# Altium footprint library Air780E.PcbLib: 40 footprints (part 1 of 3)
Each footprint in its own frame and in the unit in brackets; x right, y up, seen from the top. Pads: shape width x height; smd on the part's side, far side on the other; paste and mask are expansions set on the pad; w line width, h text height; cw(c..) or ccw(c..) is an arc to the next point about the centre after c.
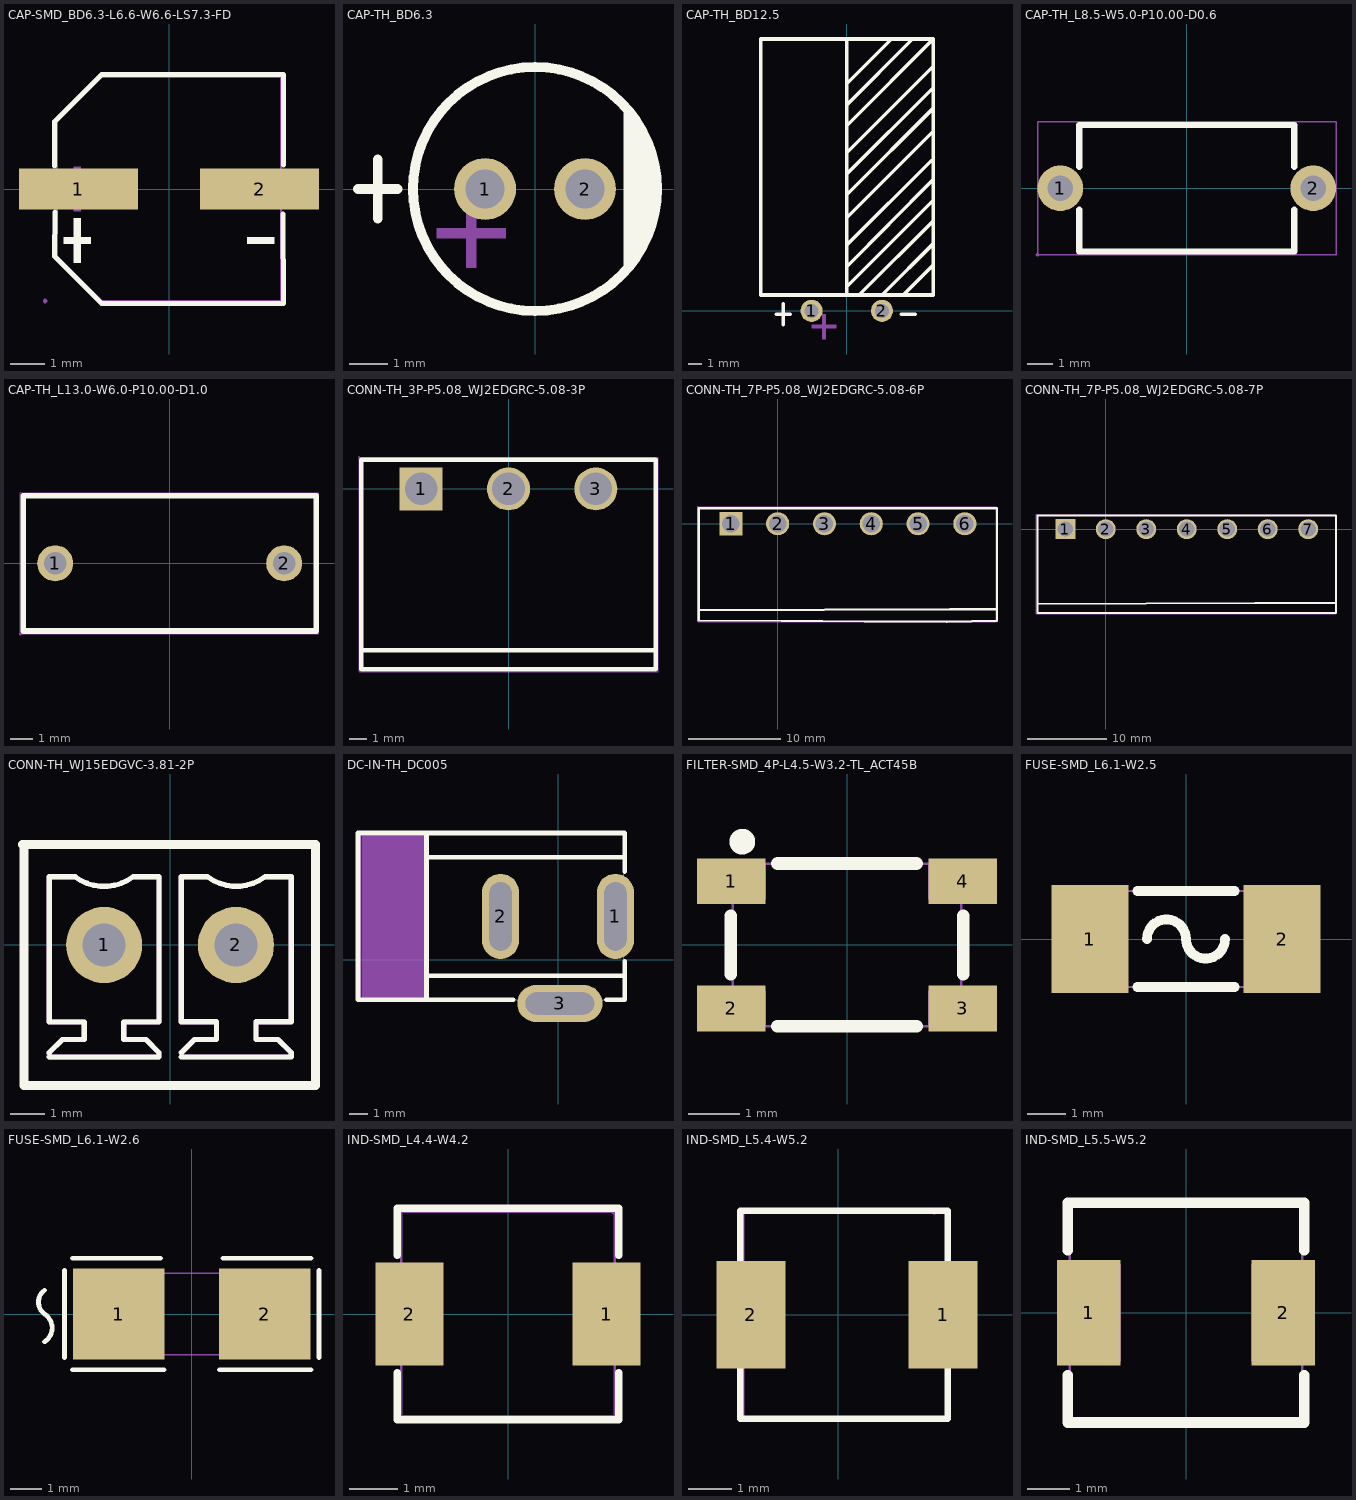
[diagram p0: the footprints below, top view; thin cyan lines are the x and y axes]

## CAP-SMD_BD6.3-L6.6-W6.6-LS7.3-FD [mm]
pads (2):
  rect 3.5x1.2 smd paste+0 mask+0.051: 1(-2.67,0) 2(2.67,0)
Top Overlay:
  region: 3.102,-1.419 3.102,-1.617 2.31,-1.617 2.31,-1.419
  region: -3.102,-1.419 -3.102,-1.617 -2.31,-1.617 -2.31,-1.419
  region: -2.805,-0.858 -2.805,-2.178 -2.607,-2.178 -2.607,-0.858
  lines w0.152: -3.376,0.686 -3.376,1.98 -1.98,3.376 3.376,3.376 3.369,0.708 ; -3.362,-0.686 -3.376,-1.981 -1.981,-3.376 3.376,-3.376 3.356,-0.739
Mechanical 6:
  region: 3.102,0.099 3.102,-0.099 2.31,-0.099 2.31,0.099
  region: -3.102,0.099 -3.102,-0.099 -2.31,-0.099 -2.31,0.099
  region: -2.805,0.66 -2.805,-0.66 -2.607,-0.66 -2.607,0.66
Mechanical 15:
  region: -3.652,0.35 -1.002,0.35 -1.002,-0.35 -3.652,-0.35
  region: 0.999,0.35 3.649,0.35 3.649,-0.35 0.999,-0.35
  region: -3.592,-3.3 -3.592,-3.275 -3.627,-3.24 -3.676,-3.24 -3.712,-3.275 -3.712,-3.3 -3.712,-3.325 -3.676,-3.36 -3.627,-3.36 -3.592,-3.325
  lines w0.051: -3.3,-1.98 -3.3,1.98 -1.98,3.3 3.3,3.3 3.3,-3.3 -1.98,-3.3 -3.3,-1.98

## CAP-TH_BD6.3 [mm]
pads (2):
  round 1.6 hole 1: 1(-1.29,0) 2(1.29,0)
Top Overlay:
  circle w0.254: c0,0 r3.15
  region: 2.286,2.092 2.286,-2.125 2.841,-1.571 3.175,0.508 2.723,1.656
  lines w0.254: -4.572,0 -3.556,0 ; -4.064,-0.762 -4.064,0.762
Mechanical 15:
  region: -2.54,-1.016 -0.762,-1.016 -0.762,-1.27 -2.54,-1.27
  region: -1.778,-0.762 -1.778,-2.032 -1.524,-2.032 -1.524,-0.254 -1.778,-0.254

## CAP-TH_BD12.5 [mm]
pads (2):
  round 1.6 hole 1: 1(-2.54,0) 2(2.54,0)
Top Overlay:
  lines w0.254: -5.08,-0.254 -4.064,-0.254 ; -4.572,-1.016 -4.572,0.508 ; 0,3.175 6.147,9.381 ; 0,6.731 6.157,12.888 ; 0,14.605 0,14.859 4.699,19.558 ; 0,16.383 3.175,19.558 ; 0.004,1.747 6.161,7.905 ; 0.004,9.875 6.24,16.112 ; 0.004,11.399 6.177,17.572 ; 0.014,1.143 0,1.157 0,13.462 0.093,13.462 6.25,19.619 ; 0.014,13.462 0.014,19.619 ; 0.034,4.792 6.084,10.841 ; 0.096,8.478 6.254,14.636 ; 1.016,1.27 6.223,6.477 ; 2.667,1.143 2.667,1.27 6.223,4.826 ; 3.81,1.143 4.064,1.143 6.223,3.302 ; 3.937,-0.254 4.953,-0.254 ; 6.25,19.619 -6.223,19.619 -6.223,1.143 6.25,1.143 6.25,18.188 6.25,19.619
Mechanical 15:
  region: -2.54,-1.016 -0.762,-1.016 -0.762,-1.27 -2.54,-1.27
  region: -1.778,-0.762 -1.778,-2.032 -1.524,-2.032 -1.524,-0.254 -1.778,-0.254

## CAP-TH_L8.5-W5.0-P10.00-D0.6 [mm]
pads (2):
  round 1.8 hole 1 paste-2539.97 mask+0.051: 1(-5,0) 2(5,0)
Top Overlay:
  lines w0.254: -4.25,-0.846 -4.25,-2.499 4.25,-2.499 4.25,-0.846 ; -4.25,0.846 -4.25,2.499 4.25,2.499 4.25,0.846
Mechanical 15:
  region: -4.6,0 -4.6,0.08 -4.661,0.227 -4.773,0.339 -4.92,0.4 -5.08,0.4 -5.227,0.339 -5.339,0.227 -5.4,0.08 -5.4,0 -5.4,-0.08 -5.339,-0.227 -5.227,-0.339 -5.08,-0.4 -4.92,-0.4 -4.773,-0.339 -4.661,-0.227 -4.6,-0.08
  region: 5.4,0 5.4,0.08 5.339,0.227 5.227,0.339 5.08,0.4 4.92,0.4 4.773,0.339 4.661,0.227 4.6,0.08 4.6,0 4.6,-0.08 4.661,-0.227 4.773,-0.339 4.92,-0.4 5.08,-0.4 5.227,-0.339 5.339,-0.227 5.4,-0.08
  region: -5.84,-2.626 -5.84,-2.602 -5.875,-2.566 -5.925,-2.566 -5.96,-2.602 -5.96,-2.626 -5.96,-2.651 -5.925,-2.686 -5.875,-2.686 -5.84,-2.651
  lines w0.051: -5.9,-2.626 5.9,-2.626 5.9,2.626 -5.9,2.626 -5.9,-2.626

## CAP-TH_L13.0-W6.0-P10.00-D1.0 [mm]
pads (2):
  round 1.6 hole 1 paste-2539.97 mask+0.051: 1(-5.08,0) 2(5.08,0)
Top Overlay:
  lines w0.254: -6.5,-3 6.5,-3 6.5,3 -6.5,3 -6.5,-3
Mechanical 15:
  region: -4.68,0 -4.68,0.08 -4.741,0.227 -4.853,0.339 -5,0.4 -5.16,0.4 -5.307,0.339 -5.419,0.227 -5.48,0.08 -5.48,0 -5.48,-0.08 -5.419,-0.227 -5.307,-0.339 -5.16,-0.4 -5,-0.4 -4.853,-0.339 -4.741,-0.227 -4.68,-0.08
  region: 5.48,0 5.48,0.08 5.419,0.227 5.307,0.339 5.16,0.4 5,0.4 4.853,0.339 4.741,0.227 4.68,0.08 4.68,0 4.68,-0.08 4.741,-0.227 4.853,-0.339 5,-0.4 5.16,-0.4 5.307,-0.339 5.419,-0.227 5.48,-0.08
  region: -6.567,-3.127 -6.567,-3.102 -6.602,-3.067 -6.652,-3.067 -6.687,-3.102 -6.687,-3.127 -6.687,-3.152 -6.652,-3.187 -6.602,-3.187 -6.567,-3.152
  lines w0.051: -6.627,-3.127 6.627,-3.127 6.627,3.127 -6.627,3.127 -6.627,-3.127

## CONN-TH_3P-P5.08_WJ2EDGRC-5.08-3P [mm]
pads (3):
  rect 2.5x2.5 hole 1.9 paste-2539.97 mask+0.051: 1(-5.08,0)
  round 2.5 hole 1.9 paste-2539.97 mask+0.051: 2(0,0) 3(5.08,0)
Top Overlay:
  lines w0.254: -8.57,-9.398 8.57,-9.398 ; -8.57,1.699 6.949,1.699 8.57,1.699 ; -8.57,1.7 -8.57,-10.5 8.57,-10.5 8.57,1.7
Mechanical 15:
  region: -8.637,1.827 -8.637,1.852 -8.672,1.887 -8.722,1.887 -8.757,1.852 -8.757,1.827 -8.757,1.802 -8.722,1.767 -8.672,1.767 -8.637,1.802
  region: 5.93,0 5.93,0.112 5.872,0.328 5.76,0.522 5.602,0.68 5.408,0.792 5.192,0.85 4.968,0.85 4.752,0.792 4.558,0.68 4.4,0.522 4.288,0.328 4.23,0.112 4.23,0 4.23,-0.112 4.288,-0.328 4.4,-0.522 4.558,-0.68 4.752,-0.792 4.968,-0.85 5.192,-0.85 5.408,-0.792 5.602,-0.68 5.76,-0.522 5.872,-0.328 5.93,-0.112
  region: 0.85,0 0.85,0.112 0.792,0.328 0.68,0.522 0.522,0.68 0.328,0.792 0.112,0.85 -0.112,0.85 -0.328,0.792 -0.522,0.68 -0.68,0.522 -0.792,0.328 -0.85,0.112 -0.85,0 -0.85,-0.112 -0.792,-0.328 -0.68,-0.522 -0.522,-0.68 -0.328,-0.792 -0.112,-0.85 0.112,-0.85 0.328,-0.792 0.522,-0.68 0.68,-0.522 0.792,-0.328 0.85,-0.112
  region: -4.23,0 -4.23,0.112 -4.288,0.328 -4.4,0.522 -4.558,0.68 -4.752,0.792 -4.968,0.85 -5.192,0.85 -5.408,0.792 -5.602,0.68 -5.76,0.522 -5.872,0.328 -5.93,0.112 -5.93,0 -5.93,-0.112 -5.872,-0.328 -5.76,-0.522 -5.602,-0.68 -5.408,-0.792 -5.192,-0.85 -4.968,-0.85 -4.752,-0.792 -4.558,-0.68 -4.4,-0.522 -4.288,-0.328 -4.23,-0.112
  lines w0.051: -8.697,-10.627 -8.697,1.827 8.697,1.827 8.697,-10.627 -8.697,-10.627

## CONN-TH_7P-P5.08_WJ2EDGRC-5.08-6P [mm]
pads (6):
  rect 2.5x2.5 hole 1.9 paste-2539.97 mask+0.051: 1(-5.08,0)
  round 2.5 hole 1.9 paste-2539.97 mask+0.051: 2(0,0) 3(5.08,0) 4(10.16,0) 5(15.24,0) 6(20.32,0)
Top Overlay:
  lines w0.254: -8.57,-9.398 18.73,-9.271 23.749,-9.271 ; -8.57,1.699 16.982,1.699 23.749,1.699 ; -8.57,1.7 -8.57,-10.5 18.349,-10.627 23.81,-10.54 23.81,1.699
Mechanical 15:
  drawing of 14 lines, arcs and shapes, not listed

## CONN-TH_7P-P5.08_WJ2EDGRC-5.08-7P [mm]
pads (7):
  rect 2.5x2.5 hole 1.9 paste-2539.97 mask+0.051: 1(-5.08,0)
  round 2.5 hole 1.9 paste-2539.97 mask+0.051: 2(0,0) 3(5.08,0) 4(10.16,0) 5(15.24,0) 6(20.32,0) 7(25.4,0)
Top Overlay:
  lines w0.254: -8.57,-9.398 18.73,-9.271 28.829,-9.271 ; -8.57,1.699 22.062,1.699 28.829,1.699 ; -8.57,1.7 -8.57,-10.5 18.73,-10.5 28.829,-10.5 ; 28.89,-10.5 28.89,1.699
Mechanical 15:
  drawing of 15 lines, arcs and shapes, not listed

## CONN-TH_WJ15EDGVC-3.81-2P [mm]
pads (2):
  round 2.2 hole 1.25 paste-2539.97 mask+0.051: 1(-1.905,0) 2(1.905,0)
Top Overlay:
  lines w0.152: -3.493,-3.238 -0.318,-3.238 -0.318,-3.111 -0.699,-2.73 -1.207,-2.731 -1.335,-2.731 -1.335,-2.222 -0.318,-2.222 -0.318,1.968 -1.07,1.968 ; -3.493,-3.111 -3.112,-2.73 -2.477,-2.731 -2.477,-2.603 -2.477,-2.222 -3.493,-2.222 -3.493,1.968 -2.74,1.968 ; -2.74,1.968 ccw(c-1.905,3.098) -1.07,1.968 ; 0.327,-3.235 3.502,-3.235 3.502,-3.108 3.121,-2.727 2.613,-2.728 2.484,-2.728 2.484,-2.219 3.502,-2.219 3.502,1.972 2.749,1.972 cw(c1.914,3.102) 1.079,1.972 0.327,1.972 0.327,-2.219 1.343,-2.219 1.343,-2.6 1.343,-2.728 0.708,-2.727 0.327,-3.108
  lines w0.254: -4.26,2.9 4.2,2.9 4.2,-4.06 -4.22,-4.06 -4.22,2.88
Mechanical 6:
  drawing of 10 lines, arcs and shapes, not listed
Mechanical 15:
  region: -4.19,-4.1 -4.19,-4.075 -4.225,-4.04 -4.275,-4.04 -4.31,-4.075 -4.31,-4.1 -4.31,-4.125 -4.275,-4.16 -4.225,-4.16 -4.19,-4.125
  region: -2.305,0.4 -1.505,0.4 -1.505,-0.4 -2.305,-0.4
  region: 1.505,0.4 2.305,0.4 2.305,-0.4 1.505,-0.4
  lines w0.051: -4.25,-4.1 4.25,-4.1 4.25,2.9 -4.25,2.9 -4.25,-4.1

## DC-IN-TH_DC005 [mm]
pads (3):
  oval 2x4.6 hole 1.2 slot 3.7 at 90 deg paste-2539.97 mask+0.051: 1(3.1,2.35) 2(-3.1,2.35)
  oval 4.6x2 hole 1.2 slot 3.7 at 0 deg paste-2539.97 mask+0.051: 3(0.1,-2.35)
Top Overlay:
  lines w0.254: -7.1,-2.15 -7.1,6.85 ; -7.02,-0.85 3.6,-0.85 ; -7.02,5.55 3.6,5.55 ; -2.415,-2.15 -10.8,-2.15 -10.8,6.85 3.6,6.85 3.6,4.775 ; 2.615,-2.15 3.6,-2.15 3.6,-0.074
Mechanical 6:
  region: -10.6,6.7 -7.2,6.7 -7.2,-2.1 -10.6,-2.1
Mechanical 15:
  region: -1.15,-2.55 1.35,-2.55 1.35,-2.09 -1.15,-2.09
  region: -2.9,1.1 -3.3,1.1 -3.3,3.6 -2.9,3.6
  region: -1.15,-2.15 1.35,-2.15 1.35,-2.55 -1.15,-2.55
  region: 2.9,3.6 3.3,3.6 3.3,1.1 2.9,1.1
  region: 3.61,6.85 3.61,6.875 3.575,6.91 3.525,6.91 3.49,6.875 3.49,6.85 3.49,6.825 3.525,6.79 3.575,6.79 3.61,6.825
  lines w0.051: -10.65,-2.15 -10.65,6.85 3.55,6.85 3.55,-2.15 -10.65,-2.15

## FILTER-SMD_4P-L4.5-W3.2-TL_ACT45B [mm]
pads (4):
  rect 1.35x0.9 smd paste+0 mask+0.051: 1(-2.275,1.25) 2(-2.275,-1.25) 3(2.275,-1.25) 4(2.275,1.25)
Top Overlay:
  circle w0.254: c-2.06,2.03 r0.127
  lines w0.254: -2.286,-0.569 -2.286,0.569 ; -1.369,-1.6 1.369,-1.6 ; -1.369,1.6 1.369,1.6 ; 2.286,-0.569 2.286,0.569
Mechanical 15:
  region: -2.25,0.9 -2.25,1.6 -1.6,1.6 -1.6,0.9
  region: 1.6,0.9 1.6,1.6 2.25,1.6 2.25,0.9
  region: 1.6,-1.6 1.6,-0.9 2.25,-0.9 2.25,-1.6
  region: -2.25,-1.6 -2.25,-0.9 -1.6,-0.9 -1.6,-1.6
  region: -2.19,1.6 -2.19,1.625 -2.225,1.66 -2.275,1.66 -2.31,1.625 -2.31,1.6 -2.31,1.575 -2.275,1.54 -2.225,1.54 -2.19,1.575
  lines w0.051: -2.25,-1.6 2.25,-1.6 2.25,1.6 -2.25,1.6 -2.25,-1.6

## FUSE-SMD_L6.1-W2.5 [mm]
pads (2):
  rect 2x2.8 smd paste+0 mask+0.051: 1(-2.5,0) 2(2.5,0)
Top Overlay:
  lines w0.254: -1.269,-1.25 1.269,-1.25 ; -1.269,1.25 1.269,1.25 ; -1.016,0 cw(c-0.508,0) 0,0 ccw(c0.508,0) 1.016,0
Mechanical 15:
  region: -2.993,1.256 -2.993,1.281 -3.029,1.316 -3.078,1.316 -3.113,1.281 -3.113,1.256 -3.113,1.231 -3.078,1.196 -3.029,1.196 -2.993,1.231
  region: -3.05,1.25 -1.65,1.25 -1.65,-1.25 -3.05,-1.25
  region: 1.65,1.25 3.05,1.25 3.05,-1.25 1.65,-1.25
  lines w0.051: -3.05,-1.25 -3.05,1.25 3.05,1.25 3.05,-1.25 -3.05,-1.25

## FUSE-SMD_L6.1-W2.6 [mm]
pads (2):
  rect 2.91x2.911 smd paste-100 mask+0.051: 1(-2.33,0) 2(2.33,0)
Top Overlay:
  lines w0.152: -4.699,-0.889 ccw(c-4.986,-0.445) -4.699,0 cw(c-4.429,0.381) -4.699,0.762 ; -4.064,-1.401 -4.064,1.393 ; -3.81,-1.778 -0.889,-1.778 ; -3.81,1.778 -1.002,1.778 ; 0.889,-1.778 3.81,-1.778 ; 1.002,1.778 3.81,1.778 ; 4.064,-1.397 4.064,1.397
Top Paste:
  region: -0.875,-1.355 -0.875,-0.595 -0.975,-0.495 -1.764,-0.495 -1.864,-0.395 -1.864,0.395 -1.764,0.495 -0.975,0.495 -0.875,0.595 -0.875,1.355 -0.975,1.455 -3.685,1.455 -3.785,1.355 -3.785,-1.355 -3.685,-1.455 -0.975,-1.455
  region: 0.875,-1.355 0.875,-0.595 0.975,-0.495 1.764,-0.495 1.864,-0.395 1.864,0.395 1.764,0.495 0.975,0.495 0.875,0.595 0.875,1.355 0.975,1.455 3.685,1.455 3.785,1.355 3.785,-1.355 3.685,-1.455 0.975,-1.455
Mechanical 15:
  region: 3.05,-1.347 3.05,1.347 1.6,1.347 1.6,-1.347
  region: -3.05,-1.347 -3.05,1.347 -1.6,1.347 -1.6,-1.347
  region: -2.99,-1.347 -2.99,-1.323 -3.025,-1.288 -3.075,-1.288 -3.11,-1.323 -3.11,-1.347 -3.11,-1.372 -3.075,-1.407 -3.025,-1.407 -2.99,-1.372
  lines w0.051: -3.05,-1.3 3.05,-1.3 3.05,1.3 -3.05,1.3 -3.05,-1.3

## IND-SMD_L4.4-W4.2 [mm]
pads (2):
  rect 1.4x2.12 smd paste+0 mask+0.051: 1(2.028,0) 2(-2.028,0)
Top Overlay:
  lines w0.152: -2.276,-1.212 -2.276,-2.176 2.276,-2.176 2.276,-1.212 ; -2.276,1.212 -2.276,2.176 2.276,2.176 2.276,1.212
Mechanical 15:
  region: -2.2,1 -1.4,1 -1.4,-1 -2.2,-1
  region: 1.4,1 2.2,1 2.2,-1 1.4,-1
  region: 2.26,2.1 2.26,2.125 2.225,2.16 2.175,2.16 2.14,2.125 2.14,2.1 2.14,2.075 2.175,2.04 2.225,2.04 2.26,2.075
  lines w0.051: -2.2,-2.1 2.2,-2.1 2.2,2.1 -2.2,2.1 -2.2,-2.1

## IND-SMD_L5.4-W5.2 [mm]
pads (2):
  rect 1.6x2.5 smd paste+0 mask+0.051: 1(2.428,0) 2(-2.028,0)
Top Overlay:
  lines w0.152: -2.276,-1.212 -2.276,-2.413 2.54,-2.413 2.54,-1.212 ; -2.276,1.212 -2.276,2.413 2.54,2.413 2.54,1.212
Mechanical 15:
  region: -2.2,1 -1.4,1 -1.4,-1 -2.2,-1
  region: 2.032,1 2.832,1 2.832,-1 2.032,-1
  region: 2.286,2.388 2.286,2.413 2.251,2.448 2.201,2.448 2.166,2.413 2.166,2.388 2.166,2.363 2.201,2.328 2.251,2.328 2.286,2.363
  lines w0.051: -2.2,-2.413 2.54,-2.413 2.54,2.413 -2.2,2.413 -2.2,-2.413

## IND-SMD_L5.5-W5.2 [mm]
pads (2):
  rect 1.5x2.5 smd paste+0 mask+0.051: 1(-2.3,0) 2(2.3,0)
Top Overlay:
  lines w0.254: -2.8,-1.481 -2.8,-2.6 2.8,-2.6 2.8,-1.481 ; -2.8,1.481 -2.8,2.6 2.8,2.6 2.8,1.481
Mechanical 15:
  region: -2.69,-2.6 -2.69,-2.575 -2.725,-2.54 -2.775,-2.54 -2.81,-2.575 -2.81,-2.6 -2.81,-2.625 -2.775,-2.66 -2.725,-2.66 -2.69,-2.625
  region: 2.75,1.15 2.75,-1.15 1.55,-1.15 1.55,1.15
  region: -1.55,1.15 -1.55,-1.15 -2.75,-1.15 -2.75,1.15
  lines w0.051: -2.75,-2.6 -2.75,2.6 2.75,2.6 2.75,-2.6 -2.75,-2.6